# Altium footprint library POGOpin-1X4-2.54.PcbLib: 1 footprints
Each footprint in its own frame and in the unit in brackets; x right, y up, seen from the top. Pads: shape width x height; smd on the part's side, far side on the other; paste and mask are expansions set on the pad; w line width, h text height; cw(c..) or ccw(c..) is an arc to the next point about the centre after c.
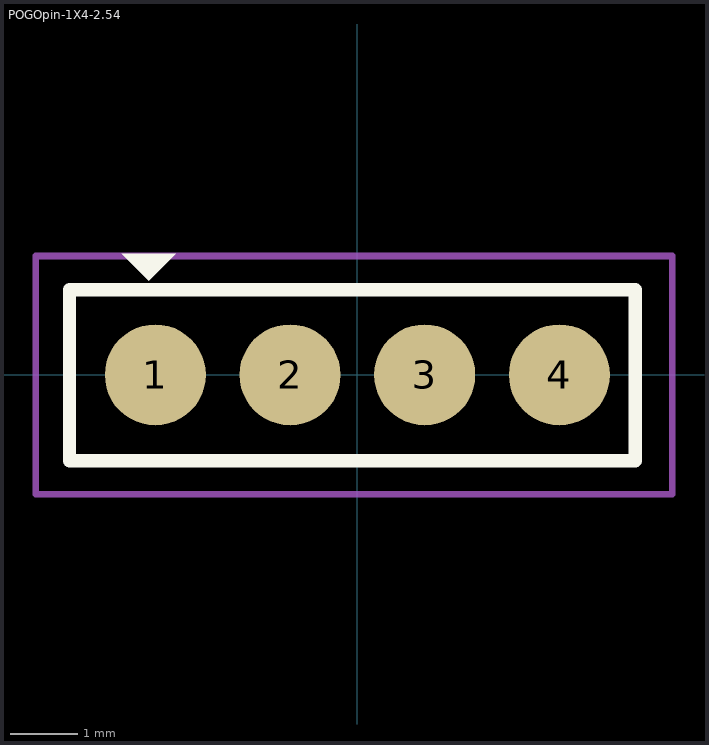
[diagram p0: the footprint, top view; thin cyan lines are the x and y axes]

## POGOpin-1X4-2.54 [mm]
pads (4):
  round 1.5 smd: 1(-3,0) 2(-1,0) 3(1,0) 4(3,0)
Top Overlay:
  region: -3.5,1.8 -2.7,1.8 -3.1,1.4
  lines w0.2: -4.275,-1.273 -4.275,1.267 4.125,1.267 4.125,-1.273 -4.275,-1.273
Top Courtyard:
  lines w0.1: -4.775,-1.773 4.675,-1.773 4.675,1.767 -4.775,1.767 -4.775,-1.773